# EAGLE library part A24001-008 (library con-omnetics)
CONNECTOR wire to board 1.27 mm (0.05") pitch header
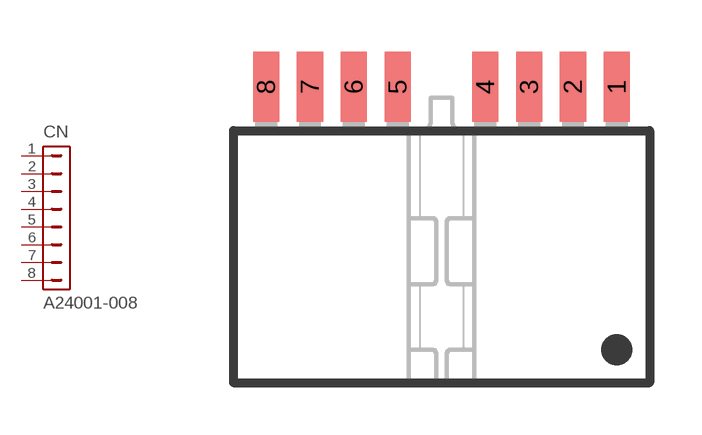
[diagram p11: symbol with the pads of A24001-008; footprint A24001-008]

Designator prefix CN

## A24001-008  [A24001-008]
1  1  pas
2  2  pas
3  3  pas
4  4  pas
5  5  pas
6  6  pas
7  7  pas
8  8  pas

## Footprint A24001-008 (pad centres in mm)
Connector SMD right angle, 8 pin
smd 0.762 x 2.032: 1 5.08,5.08; 2 3.81,5.08; 3 2.54,5.08; 4 1.27,5.08; 5 -1.27,5.08; 6 -2.54,5.08; 7 -3.81,5.08; 8 -5.08,5.08